# Altium footprint library LED.PcbLib: 55 footprints (part 2 of 4)
Each footprint in its own frame and in the unit in brackets; x right, y up, seen from the top. Pads: shape width x height; smd on the part's side, far side on the other; paste and mask are expansions set on the pad; w line width, h text height; cw(c..) or ccw(c..) is an arc to the next point about the centre after c.
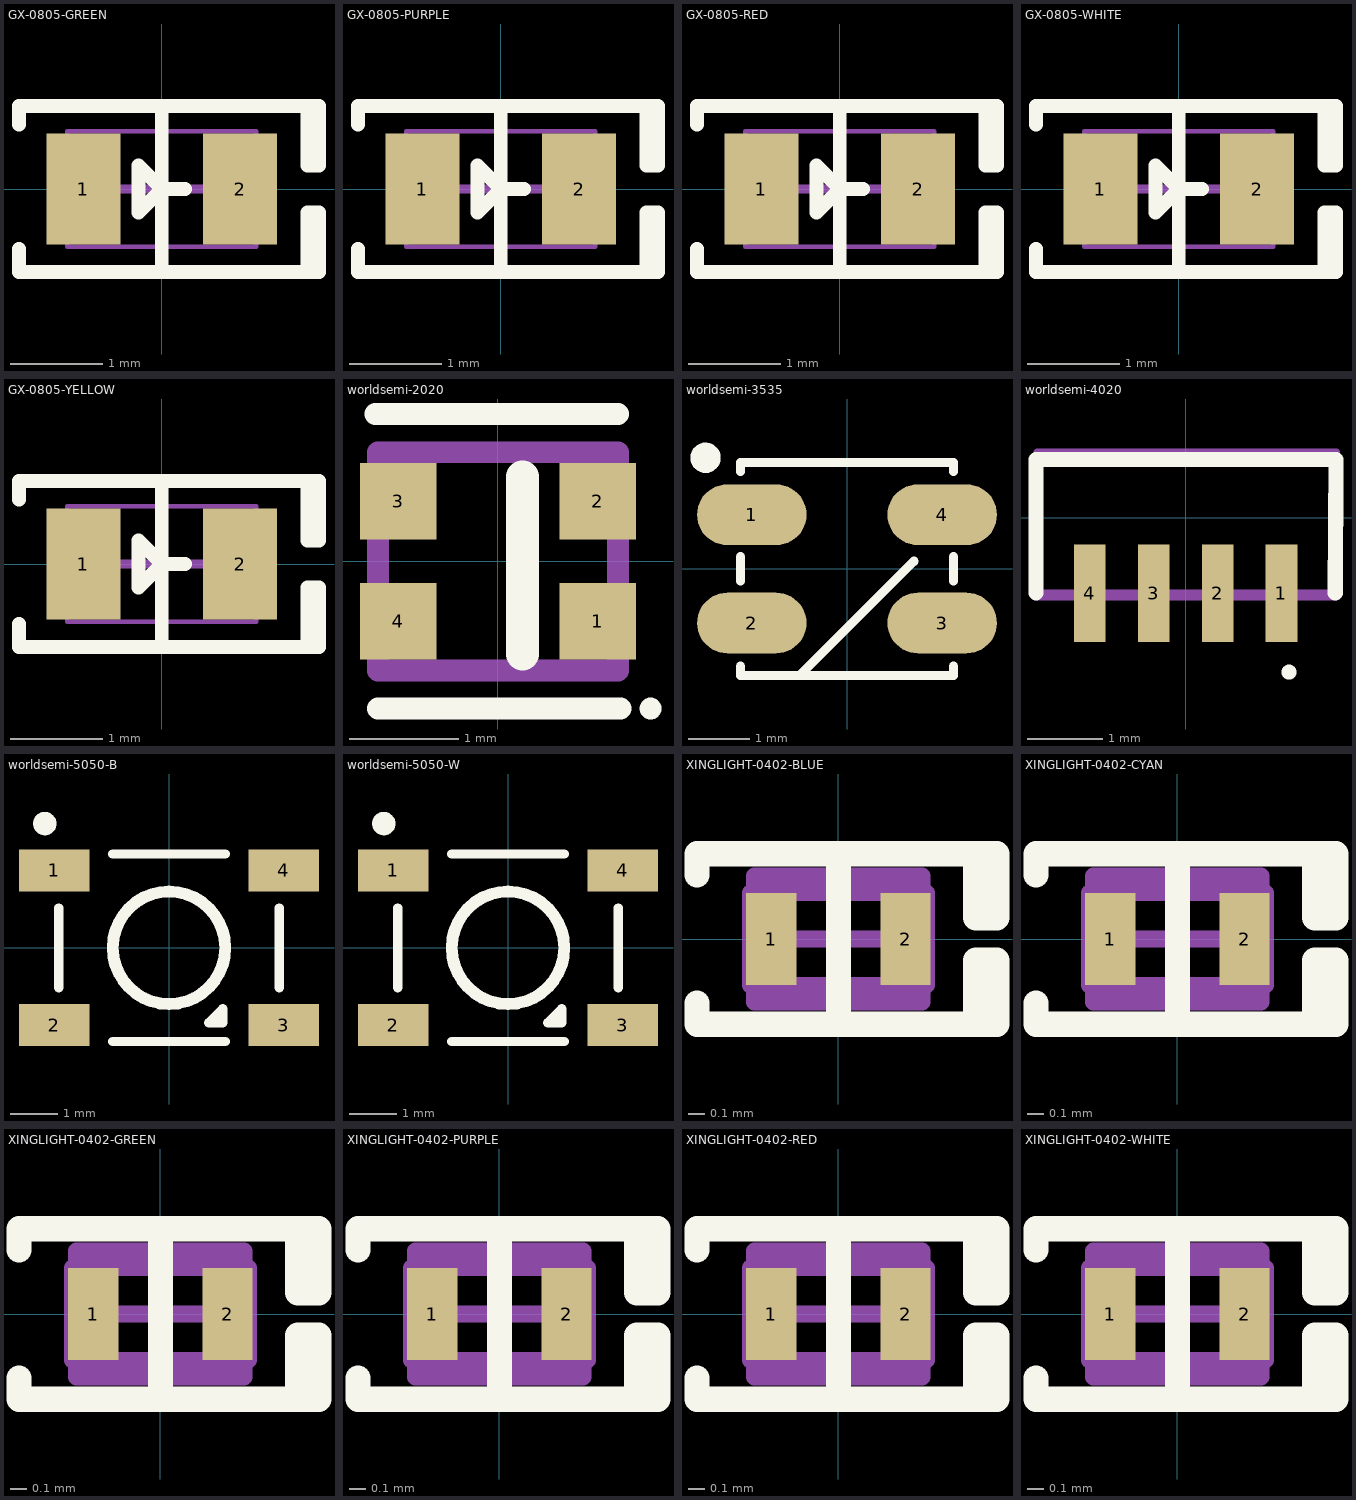
[diagram p1: the footprints below, top view; thin cyan lines are the x and y axes]

## GX-0805-GREEN [mm] "国星光电 0805 LED封装 绿色"
pads (2):
  rect 0.8x1.2 smd: 1(-0.85,0) 2(0.85,0)
Top Overlay:
  lines w0.15: -1.55,-0.65 -1.55,-0.9 1.625,-0.9 ; -1.55,0.7 -1.55,0.9 1.6,0.9 ; 0,-0.9 0,0.9 ; 0.254,0 0,0 ; 0,0 -0.254,0.254 -0.254,-0.254 0,0 ; 1.58,-0.9 1.707,-0.9 1.707,-0.254 1.58,-0.254 1.58,-0.9 ; 1.58,0.254 1.58,0.9 1.707,0.9 1.707,0.254 1.58,0.254
Mechanical 15:
  lines w0.05: -1.025,-0.625 -1.025,0.625 1.025,0.625 1.025,-0.625 -1.025,-0.625
  lines w0.1: -0.5,0 0.5,0 ; 0,-0.5 0,0.5
3D body "LED0805_green.STEP": height 1.1, standoff 0, extent -1.01,-0.625 1.01,0.625

## GX-0805-PURPLE [mm] "国星光电 0805 LED封装 紫色"
pads (2):
  rect 0.8x1.2 smd: 1(-0.85,0) 2(0.85,0)
Top Overlay:
  lines w0.15: -1.55,-0.65 -1.55,-0.9 1.625,-0.9 ; -1.55,0.7 -1.55,0.9 1.6,0.9 ; 0,-0.9 0,0.9 ; 0.254,0 0,0 ; 0,0 -0.254,-0.254 -0.254,0.254 0,0 ; 1.58,-0.9 1.58,-0.254 1.707,-0.254 1.707,-0.9 1.58,-0.9 ; 1.58,0.254 1.707,0.254 1.707,0.9 1.58,0.9 1.58,0.254
Mechanical 15:
  lines w0.05: -1.025,-0.625 1.025,-0.625 1.025,0.625 -1.025,0.625 -1.025,-0.625
  lines w0.1: -0.5,0 0.5,0 ; 0,-0.5 0,0.5
3D body "LED0805 purple.STEP": height 1.1, standoff 0, extent -1.01,-0.625 1.01,0.625

## GX-0805-RED [mm] "国星光电 0805 LED封装 红色"
pads (2):
  rect 0.8x1.2 smd: 1(-0.85,0) 2(0.85,0)
Top Overlay:
  lines w0.15: -1.55,-0.65 -1.55,-0.9 1.625,-0.9 ; -1.55,0.7 -1.55,0.9 1.6,0.9 ; 0,-0.9 0,0.9 ; 0.254,0 0,0 ; 0,0 -0.254,-0.254 -0.254,0.254 0,0 ; 1.58,-0.9 1.58,-0.254 1.707,-0.254 1.707,-0.9 1.58,-0.9 ; 1.58,0.254 1.707,0.254 1.707,0.9 1.58,0.9 1.58,0.254
Mechanical 15:
  lines w0.05: -1.025,-0.625 1.025,-0.625 1.025,0.625 -1.025,0.625 -1.025,-0.625
  lines w0.1: -0.5,0 0.5,0 ; 0,-0.5 0,0.5
3D body "LED0805_red.STEP": height 1.1, standoff 0, extent -1.01,-0.625 1.01,0.625

## GX-0805-WHITE [mm] "国星光电 0805 LED封装 白色"
pads (2):
  rect 0.8x1.2 smd: 1(-0.85,0) 2(0.85,0)
Top Overlay:
  lines w0.15: -1.55,-0.65 -1.55,-0.9 1.625,-0.9 ; -1.55,0.7 -1.55,0.9 1.6,0.9 ; 0,-0.9 0,0.9 ; 0.254,0 0,0 ; 0,0 -0.254,-0.254 -0.254,0.254 0,0 ; 1.58,-0.9 1.58,-0.254 1.707,-0.254 1.707,-0.9 1.58,-0.9 ; 1.58,0.254 1.707,0.254 1.707,0.9 1.58,0.9 1.58,0.254
Mechanical 15:
  lines w0.05: -1.025,-0.625 1.025,-0.625 1.025,0.625 -1.025,0.625 -1.025,-0.625
  lines w0.1: -0.5,0 0.5,0 ; 0,-0.5 0,0.5
3D body "LED0805 white.STEP": height 1.1, standoff 0, extent -1.01,-0.625 1.01,0.625

## GX-0805-YELLOW [mm] "国星光电 0805 LED封装 黄色"
pads (2):
  rect 0.8x1.2 smd: 1(-0.85,0) 2(0.85,0)
Top Overlay:
  lines w0.15: -1.55,-0.65 -1.55,-0.9 1.625,-0.9 ; -1.55,0.7 -1.55,0.9 1.6,0.9 ; 0,-0.9 0,0.9 ; 0.254,0 0,0 ; 0,0 -0.254,0.254 -0.254,-0.254 0,0 ; 1.58,-0.9 1.707,-0.9 1.707,-0.254 1.58,-0.254 1.58,-0.9 ; 1.58,0.254 1.58,0.9 1.707,0.9 1.707,0.254 1.58,0.254
Mechanical 15:
  lines w0.05: -1.025,-0.625 -1.025,0.625 1.025,0.625 1.025,-0.625 -1.025,-0.625
  lines w0.1: -0.5,0 0.5,0 ; 0,-0.5 0,0.5
3D body "LED0805_yellow.STEP": height 1.1, standoff 0, extent -1.01,-0.625 1.01,0.625

## worldsemi-2020 [mm] "worldsemi SMD2020 推荐焊盘"
pads (4):
  rect 0.7x0.7 smd: 1(0.915,-0.55) 2(0.915,0.55) 3(-0.915,0.55) 4(-0.915,-0.55)
Top Overlay:
  lines w0.1: 1.4,-1.4 cw(c1.4,-1.35) 1.4,-1.3 cw(c1.4,-1.35) 1.4,-1.4
  lines w0.2: -1.125,1.35 1.1,1.35 ; -1.1,-1.35 1.125,-1.35
  lines w0.3: 0.225,-0.85 0.225,0.775
Mechanical 15:
  lines w0.2: -1.1,-1 -1.1,1 1.1,1 1.1,-1 -1.1,-1
3D body "WS2812B-2020.step": height 0.84, standoff 0, extent -1.1,-1 1.1,1

## worldsemi-3535 [mm] "XINGLIGHT(成兴光) SMD3535 推荐焊盘 白色"
pads (4):
  oval 1.8x1 smd mask+0.05: 1(-1.565,0.89) 2(-1.565,-0.89) 3(1.565,-0.89) 4(1.565,0.89)
Top Overlay:
  circle w0.25: c-2.325,1.825 r0.125
  lines w0.15: -1.75,-1.6 -1.75,-1.75 1.75,-1.75 1.75,-1.6 ; -1.75,-0.2 -1.75,0.2 ; -1.75,1.6 -1.75,1.75 1.75,1.75 1.75,1.6 ; -0.75,-1.725 1.1,0.125 ; 1.75,-0.2 1.75,0.2
3D body "WS2812B-3535.STEP": height 1.94, standoff -0.03, extent -1.902,-1.75 1.902,1.75

## worldsemi-4020 [mm] "worldsemi SMD4020 推荐焊盘"
pads (4):
  rect 0.42x1.3 smd: 1(1.275,-1) 2(0.425,-1) 3(-0.425,-1) 4(-1.275,-1)
Top Overlay:
  lines w0.1: 1.375,-2.1 cw(c1.375,-2.05) 1.375,-2 cw(c1.375,-2.05) 1.375,-2.1
  lines w0.2: -1.99,-1 -1.99,0.775 1.999,0.775 1.99,-1
Mechanical 13:
  lines w0.1: -1.99,-1 -1.99,0.725 1.99,0.725 1.99,-1 -1.99,-1
Mechanical 15:
  lines w0.1: -1.975,-1.05 -1.975,0.875 2,0.875 2,-1.05 -1.975,-1.05
3D body "WS2812B-4020.step": height 2, standoff 0, extent -1.925,-0.975 2.075,0.775

## worldsemi-5050-B [mm] "worldsemi SMD5050 推荐焊盘 黑色"
pads (4):
  rect 1.5x0.9 smd: 1(-2.45,1.65) 2(-2.45,-1.65) 3(2.45,-1.65) 4(2.45,1.65)
Top Overlay:
  circle w0.25: c-2.65,2.65 r0.125
  circle w0.254: c0,0 r1.2
  lines w0.2: -2.35,-0.85 -2.35,0.85 ; -1.2,-2 1.2,-2 ; -1.2,2 1.2,2 ; 2.35,-0.85 2.35,0.85 ; 0.85,-1.6 1.15,-1.3 1.15,-1.6 0.85,-1.6
3D body "WS2812B-5050-B.step": height 1.58, standoff 0.01, extent -2.7,-2.5 2.7,2.5

## worldsemi-5050-W [mm] "worldsemi SMD5050 推荐焊盘 白色2"
pads (4):
  rect 1.5x0.9 smd: 1(-2.45,1.65) 2(-2.45,-1.65) 3(2.45,-1.65) 4(2.45,1.65)
Top Overlay:
  circle w0.25: c-2.65,2.65 r0.125
  circle w0.254: c0,0 r1.2
  lines w0.2: -2.35,-0.85 -2.35,0.85 ; -1.2,-2 1.2,-2 ; -1.2,2 1.2,2 ; 2.35,-0.85 2.35,0.85 ; 0.85,-1.6 1.15,-1.3 1.15,-1.6 0.85,-1.6
3D body "WS2812B-5050-W.step": height 0.8, standoff -0.77, extent -2.7,-2.5 2.7,2.5

## XINGLIGHT-0402-BLUE [mm] "XINGLIGHT(成兴光) 0402 LED封装 蓝色"
pads (2):
  rect 0.3x0.55 smd mask+0.05: 1(-0.4,0) 2(0.4,0)
Top Overlay:
  lines w0.15: -0.843,-0.381 -0.843,-0.508 0.818,-0.508 ; -0.843,0.381 -0.843,0.508 0.818,0.508 ; 0,-0.508 0,0.508 ; 0.818,-0.508 0.818,-0.127 0.945,-0.127 0.945,-0.508 0.818,-0.508 ; 0.818,0.508 0.818,0.127 0.945,0.127 0.945,0.508 0.818,0.508
Mechanical 13:
  lines w0.1: -0.525,-0.275 -0.525,0.275 0.525,0.275 0.525,-0.275 -0.525,-0.275
Mechanical 15:
  lines w0.1: -0.275,0 0.275,0 ; 0,-0.275 0,0.275 ; -0.5,-0.375 -0.5,0.375 0.5,0.375 0.5,-0.375 -0.5,-0.375
3D body "LED0402 blue.STEP": height 0.45, standoff 0, extent -0.505,-0.25 0.505,0.25

## XINGLIGHT-0402-CYAN [mm] "XINGLIGHT(成兴光) 0402 LED封装 青色"
pads (2):
  rect 0.3x0.55 smd mask+0.05: 1(-0.4,0) 2(0.4,0)
Top Overlay:
  lines w0.15: -0.843,-0.381 -0.843,-0.508 0.818,-0.508 ; -0.843,0.381 -0.843,0.508 0.818,0.508 ; 0,-0.508 0,0.508 ; 0.818,-0.508 0.945,-0.508 0.945,-0.127 0.818,-0.127 0.818,-0.508 ; 0.818,0.508 0.945,0.508 0.945,0.127 0.818,0.127 0.818,0.508
Mechanical 13:
  lines w0.1: -0.525,-0.275 0.525,-0.275 0.525,0.275 -0.525,0.275 -0.525,-0.275
Mechanical 15:
  lines w0.1: -0.275,0 0.275,0 ; 0,-0.275 0,0.275 ; -0.5,-0.375 0.5,-0.375 0.5,0.375 -0.5,0.375 -0.5,-0.375
3D body "LED0402 cyan.STEP": height 0.45, standoff 0, extent -0.505,-0.25 0.505,0.25

## XINGLIGHT-0402-GREEN [mm] "XINGLIGHT(成兴光) 0402 LED封装 绿色"
pads (2):
  rect 0.3x0.55 smd mask+0.05: 1(-0.4,0) 2(0.4,0)
Top Overlay:
  lines w0.15: -0.843,-0.381 -0.843,-0.508 0.818,-0.508 ; -0.843,0.381 -0.843,0.508 0.818,0.508 ; 0,-0.508 0,0.508 ; 0.818,-0.508 0.945,-0.508 0.945,-0.127 0.818,-0.127 0.818,-0.508 ; 0.818,0.508 0.945,0.508 0.945,0.127 0.818,0.127 0.818,0.508
Mechanical 13:
  lines w0.1: -0.525,-0.275 0.525,-0.275 0.525,0.275 -0.525,0.275 -0.525,-0.275
Mechanical 15:
  lines w0.1: -0.275,0 0.275,0 ; 0,-0.275 0,0.275 ; -0.5,-0.375 0.5,-0.375 0.5,0.375 -0.5,0.375 -0.5,-0.375
3D body "LED0402 green.STEP": height 0.45, standoff 0, extent -0.505,-0.25 0.505,0.25

## XINGLIGHT-0402-PURPLE [mm] "XINGLIGHT(成兴光) 0402 LED封装 紫色"
pads (2):
  rect 0.3x0.55 smd mask+0.05: 1(-0.4,0) 2(0.4,0)
Top Overlay:
  lines w0.15: -0.843,-0.381 -0.843,-0.508 0.818,-0.508 ; -0.843,0.381 -0.843,0.508 0.818,0.508 ; 0,-0.508 0,0.508 ; 0.818,-0.508 0.945,-0.508 0.945,-0.127 0.818,-0.127 0.818,-0.508 ; 0.818,0.508 0.945,0.508 0.945,0.127 0.818,0.127 0.818,0.508
Mechanical 13:
  lines w0.1: -0.525,-0.275 0.525,-0.275 0.525,0.275 -0.525,0.275 -0.525,-0.275
Mechanical 15:
  lines w0.1: -0.275,0 0.275,0 ; 0,-0.275 0,0.275 ; -0.5,-0.375 0.5,-0.375 0.5,0.375 -0.5,0.375 -0.5,-0.375
3D body "LED0402 purple.STEP": height 0.45, standoff 0, extent -0.505,-0.25 0.505,0.25

## XINGLIGHT-0402-RED [mm] "XINGLIGHT(成兴光) 0402 LED封装 红色"
pads (2):
  rect 0.3x0.55 smd mask+0.05: 1(-0.4,0) 2(0.4,0)
Top Overlay:
  lines w0.15: -0.843,-0.381 -0.843,-0.508 0.818,-0.508 ; -0.843,0.381 -0.843,0.508 0.818,0.508 ; 0,-0.508 0,0.508 ; 0.818,-0.508 0.945,-0.508 0.945,-0.127 0.818,-0.127 0.818,-0.508 ; 0.818,0.508 0.945,0.508 0.945,0.127 0.818,0.127 0.818,0.508
Mechanical 13:
  lines w0.1: -0.525,-0.275 0.525,-0.275 0.525,0.275 -0.525,0.275 -0.525,-0.275
Mechanical 15:
  lines w0.1: -0.275,0 0.275,0 ; 0,-0.275 0,0.275 ; -0.5,-0.375 0.5,-0.375 0.5,0.375 -0.5,0.375 -0.5,-0.375
3D body "LED0402 red.STEP": height 0.45, standoff 0, extent -0.505,-0.25 0.505,0.25

## XINGLIGHT-0402-WHITE [mm] "XINGLIGHT(成兴光) 0402 LED封装 白色"
pads (2):
  rect 0.3x0.55 smd mask+0.05: 1(-0.4,0) 2(0.4,0)
Top Overlay:
  lines w0.15: -0.843,-0.381 -0.843,-0.508 0.818,-0.508 ; -0.843,0.381 -0.843,0.508 0.818,0.508 ; 0,-0.508 0,0.508 ; 0.818,-0.508 0.945,-0.508 0.945,-0.127 0.818,-0.127 0.818,-0.508 ; 0.818,0.508 0.945,0.508 0.945,0.127 0.818,0.127 0.818,0.508
Mechanical 13:
  lines w0.1: -0.525,-0.275 0.525,-0.275 0.525,0.275 -0.525,0.275 -0.525,-0.275
Mechanical 15:
  lines w0.1: -0.275,0 0.275,0 ; 0,-0.275 0,0.275 ; -0.5,-0.375 0.5,-0.375 0.5,0.375 -0.5,0.375 -0.5,-0.375
3D body "LED0402 white.STEP": height 0.45, standoff 0, extent -0.505,-0.25 0.505,0.25